# EAGLE library part IMU (library MEE_433)
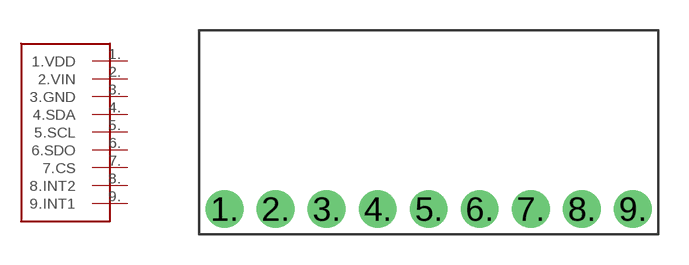
[diagram p1: symbol with the pads of IMU; footprint IMU]

Designator prefix -

## IMU  [IMU]
1.  1.VDD
2.  2.VIN
3.  3.GND
4.  4.SDA
5.  5.SCL
6.  6.SDO
7.  7.CS
8.  8.INT2
9.  9.INT1

## Footprint IMU (pad centres in mm)
Plated Through Hole -8 Pin Specifications: Pin count:8 Pin pitch:0.1" Example device(s): CONN_08
drill 1.016 pad 1.88: 1. 0,0; 2. 2.54,0; 3. 5.08,0; 4. 7.62,0; 5. 10.16,0; 6. 12.7,0; 7. 15.24,0; 8. 17.78,0; 9. 20.32,0